# EAGLE library part HM55B (library m-pad)
Hitachi® HM55B General Description The Hitachi HM55B is a dual-axis magnetic field sensor that can add a sense of direction to your next electronic or robotic project. . Features Sensitive to microtesla (µT) variations in magnetic field strength Simplifies direction by resolving magnetic field measurements into two component axes Good for 6-bit (64-direction) resolution measurements after software calibration Only 30 to 40 ms between start measurement and data-ready Built-in resistor protection for data pins eliminates bus conflict risks Compact and breadboard-friendly Application Ideas Mobile robot direction sensor Handheld electronic compass Weathervane indicator for remote weather stations Audible compass for the vision impaired Automotive electronic compass Please send any comments to: messi@users.sourceforge.net
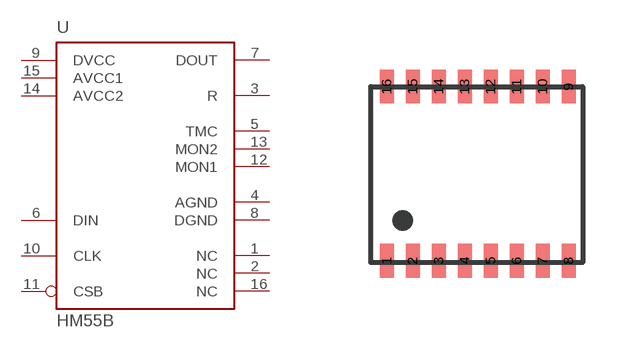
[diagram p49: symbol with the pads of HM55B; footprint HM55B]

Designator prefix U

## HM55B  [HM55B]
1  NC  nc
2  NC  nc
3  R  in
4  AGND  pwr
5  TMC  in
6  DIN  in
7  DOUT  out
8  DGND  pwr
9  DVCC  pwr
10  CLK  in
11  CSB  in
12  MON1  in
13  MON2  in
14  AVCC2  pwr
15  AVCC1  pwr
16  NC  nc

## Footprint HM55B (pad centres in mm)
Package for the HM55B from Hitachi
smd 0.35 x 0.85: 1 -2.25,-2.15; 2 -1.6,-2.15; 3 -0.95,-2.15; 4 -0.3,-2.15; 5 0.35,-2.15; 6 1,-2.15; 7 1.65,-2.15; 8 2.3,-2.15; 9 2.3,2.2; 10 1.65,2.2; 11 1,2.2; 12 0.35,2.2; 13 -0.3,2.2; 14 -0.95,2.2; 15 -1.6,2.2; 16 -2.25,2.2